# Altium footprint library Miscellaneous Devices LC.PcbLib: 559 footprints (part 1 of 35)
Each footprint in its own frame and in the unit in brackets; x right, y up, seen from the top. Pads: shape width x height; smd on the part's side, far side on the other; paste and mask are expansions set on the pad; w line width, h text height; cw(c..) or ccw(c..) is an arc to the next point about the centre after c.
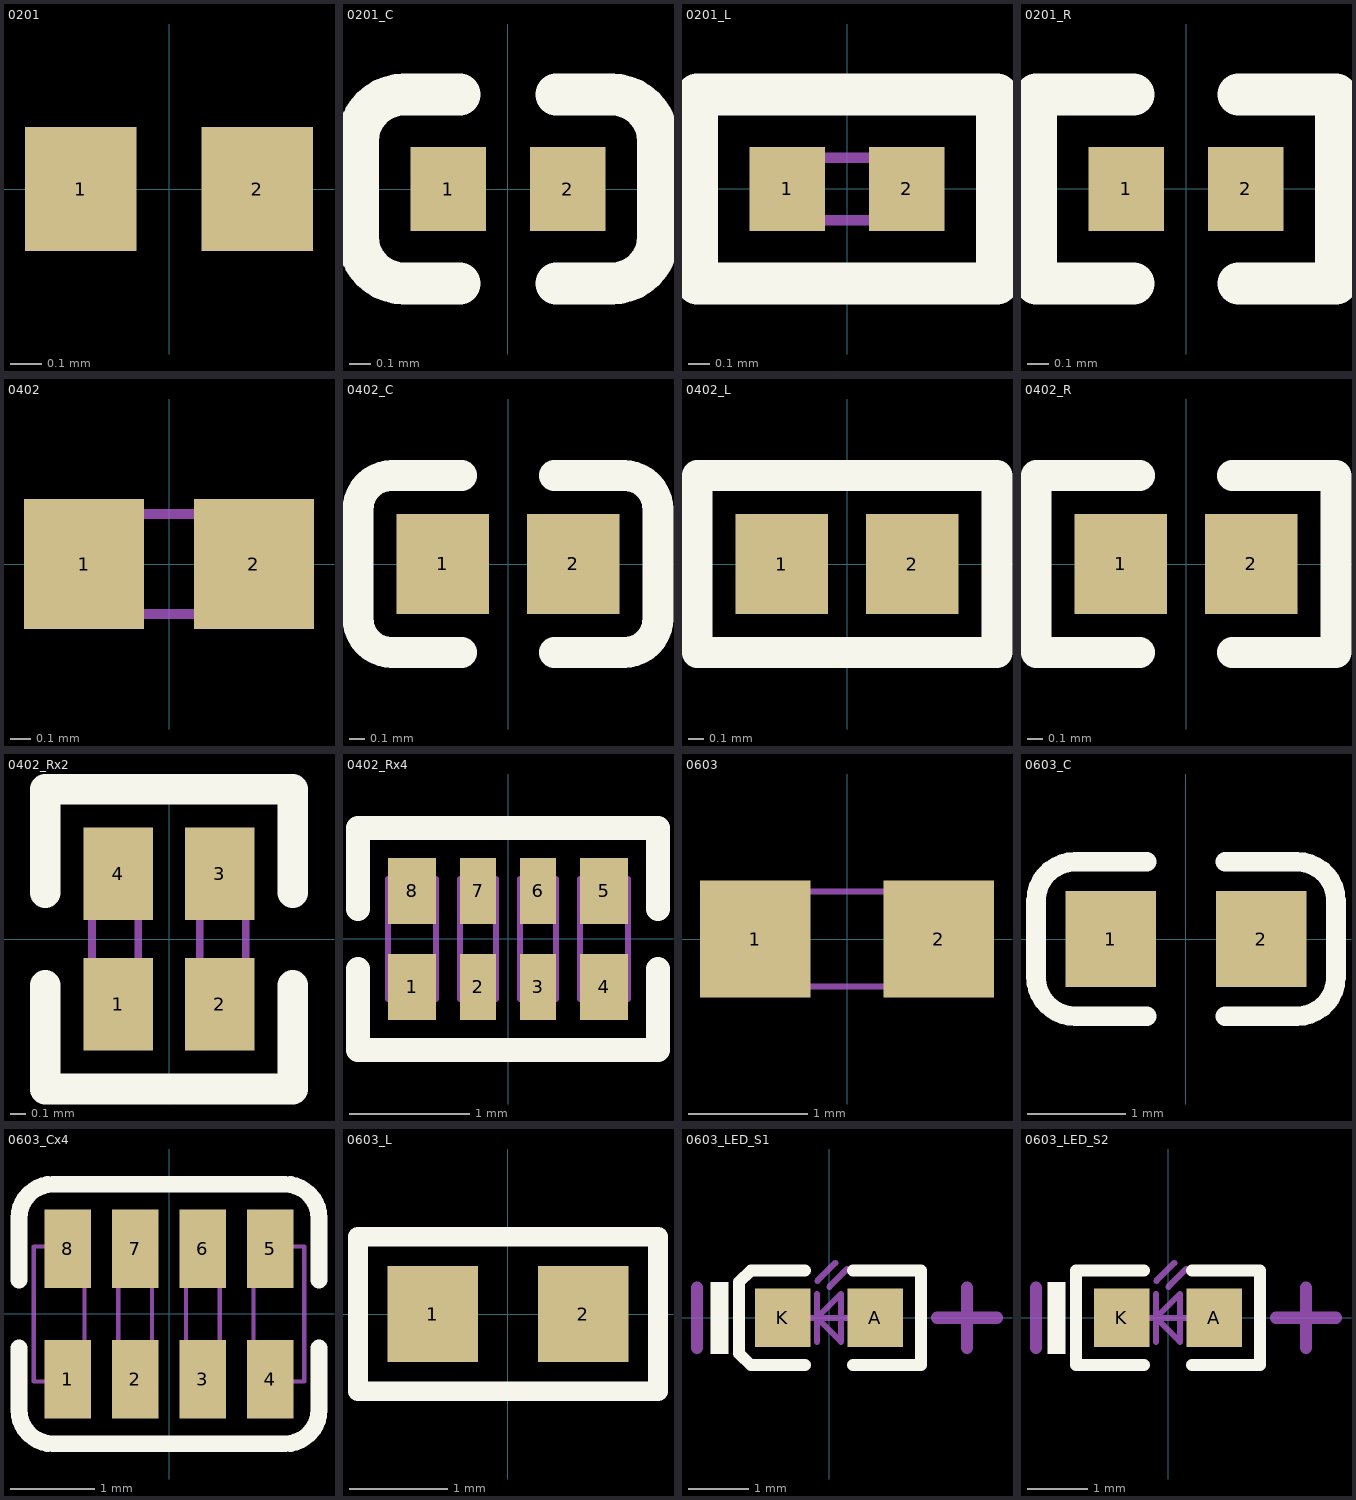
[diagram p0: the footprints below, top view; thin cyan lines are the x and y axes]

## 0201 [mm]
pads (2):
  rect 0.36x0.4 smd mask+0.051: 1(-0.285,0) 2(0.285,0)

## 0201_C [mm]
pads (2):
  rect 0.36x0.4 smd mask+0.051: 1(-0.285,0) 2(0.285,0)
Top Overlay:
  lines w0.2: -0.23,-0.45 -0.495,-0.45 cw(c-0.495,-0.23) -0.715,-0.23 -0.715,0.23 cw(c-0.495,0.23) -0.495,0.45 -0.23,0.45 ; 0.23,-0.45 0.495,-0.45 ccw(c0.495,-0.23) 0.715,-0.23 0.715,0.23 ccw(c0.495,0.23) 0.495,0.45 0.23,0.45
3D body "User Library-0201(0603M) Cap.step": height 0.31, standoff 0, extent -0.305,-0.152 0.305,0.153

## 0201_L [mm]
pads (2):
  rect 0.36x0.4 smd mask+0.051: 1(-0.285,0) 2(0.285,0)
Top Overlay:
  lines w0.2: -0.715,-0.45 -0.715,0.45 0.715,0.45 0.715,-0.45 -0.715,-0.45
Mechanical 13:
  lines w0.05: -0.3,-0.15 0.3,-0.15 0.3,0.15 -0.3,0.15 -0.3,-0.15
3D body "L0201.STEP": height 0.28, standoff 0, extent -0.3,-0.15 0.3,0.15

## 0201_R [mm]
pads (2):
  rect 0.36x0.4 smd mask+0.051: 1(-0.285,0) 2(0.285,0)
Top Overlay:
  lines w0.2: -0.25,-0.45 -0.715,-0.45 -0.715,0.45 -0.25,0.45 ; 0.25,-0.45 0.715,-0.45 0.715,0.45 0.25,0.45
3D body "User Library-RES_0603-0201.STEP": height 0.34, standoff 0, extent -0.34,-0.165 0.34,0.165

## 0402 [mm]
pads (2):
  rect 0.6x0.65 smd mask+0.051: 1(-0.425,0) 2(0.425,0)
Mechanical 13:
  lines w0.05: -0.5,-0.25 -0.5,0.25 0.5,0.25 0.5,-0.25 -0.5,-0.25

## 0402_C [mm]
pads (2):
  rect 0.6x0.65 smd mask+0.051: 1(-0.425,0) 2(0.425,0)
Top Overlay:
  lines w0.2: -0.755,-0.575 cw(c-0.755,-0.355) -0.975,-0.355 -0.975,0.355 cw(c-0.755,0.355) -0.755,0.575 ; -0.75,-0.575 -0.3,-0.575 ; -0.75,0.575 -0.3,0.575 ; 0.3,-0.575 0.75,-0.575 ; 0.3,0.575 0.75,0.575 ; 0.755,-0.575 ccw(c0.755,-0.355) 0.975,-0.355 0.975,0.355 ccw(c0.755,0.355) 0.755,0.575
3D body "0402 SMD Capacitor.step": height 0.2, standoff 0, extent -0.483,-0.3 0.518,0.3

## 0402_L [mm]
pads (2):
  rect 0.6x0.65 smd mask+0.051: 1(-0.425,0) 2(0.425,0)
Top Overlay:
  lines w0.2: -0.975,-0.575 -0.975,0.575 0.975,0.575 0.975,-0.575 -0.975,-0.575
3D body "L0402.STEP": height 0.36, standoff -0.01, extent -0.512,-0.262 0.538,0.263

## 0402_R [mm]
pads (2):
  rect 0.6x0.65 smd mask+0.051: 1(-0.425,0) 2(0.425,0)
Top Overlay:
  lines w0.2: -0.3,-0.575 -0.975,-0.575 -0.975,0.575 -0.3,0.575 ; 0.3,-0.575 0.975,-0.575 0.975,0.575 0.3,0.575
3D body "User Library-RES_1005-0402.STEP": height 0.41, standoff 0, extent -0.575,-0.275 0.575,0.275

## 0402_Rx2 [mm]
pads (4):
  rect 0.45x0.6 smd mask+0.051: 1(-0.33,-0.425) 2(0.33,-0.425) 3(0.33,0.425) 4(-0.33,0.425)
Top Overlay:
  lines w0.2: -0.805,-0.3 -0.805,-0.975 0.805,-0.975 0.805,-0.3 ; -0.805,0.3 -0.805,0.975 0.805,0.975 0.805,0.3
Mechanical 13:
  lines w0.05: -0.5,-0.5 -0.5,0.5 -0.2,0.5 -0.2,-0.5 -0.5,-0.5 ; 0.2,-0.5 0.2,0.5 0.5,0.5 0.5,-0.5 0.2,-0.5
3D body "User Library-YC122.STEP": height 0.35, standoff 0, extent -0.5,-0.5 0.5,0.5

## 0402_Rx4 [mm]
pads (8):
  rect 0.4x0.55 smd mask+0.051: 1(-0.8,-0.4) 4(0.8,-0.4) 5(0.8,0.4) 8(-0.8,0.4)
  rect 0.3x0.55 smd mask+0.051: 2(-0.25,-0.4) 3(0.25,-0.4) 6(0.25,0.4) 7(-0.25,0.4)
Top Overlay:
  lines w0.2: -1.25,-0.25 -1.25,-0.925 1.25,-0.925 1.25,-0.25 ; -1.25,0.25 -1.25,0.925 1.25,0.925 1.25,0.25
Mechanical 13:
  lines w0.05: -1,-0.5 -0.6,-0.5 ; -1,-0.5 -1,0.5 -0.6,0.5 -0.6,-0.5 ; -1,-0.5 -0.6,-0.5 ; -0.4,-0.5 -0.1,-0.5 -0.1,0.5 -0.4,0.5 -0.4,-0.5 ; 0.1,-0.5 0.4,-0.5 0.4,0.5 0.1,0.5 0.1,-0.5 ; 0.6,-0.5 1,-0.5 1,0.5 0.6,0.5 0.6,-0.5
3D body "User Library-YC124-1.step": height 0.45, standoff 0, extent -1,-0.5 1,0.5

## 0603 [mm]
pads (2):
  rect 0.93x0.98 smd: 1(-0.77,0) 2(0.77,0)
Mechanical 13:
  lines w0.05: -0.8,-0.4 0.8,-0.4 0.8,0.4 -0.8,0.4 -0.8,-0.4

## 0603_C [mm]
pads (2):
  rect 0.93x0.98 smd: 1(-0.77,0) 2(0.77,0)
Top Overlay:
  lines w0.2: -0.4,-0.79 -1.135,-0.79 cw(c-1.135,-0.39) -1.535,-0.39 -1.535,0.39 cw(c-1.135,0.39) -1.135,0.79 -0.4,0.79 ; 0.4,-0.79 1.135,-0.79 ccw(c1.135,-0.39) 1.535,-0.39 1.535,0.39 ccw(c1.135,0.39) 1.135,0.79 0.4,0.79
3D body "User Library-0603 SMD Capacitor.STEP": height 0.3, standoff 0, extent -0.8,-0.4 0.8,0.4

## 0603_Cx4 [mm]
pads (8):
  rect 0.55x0.93 smd mask+0.051: 1(-1.2,-0.77) 2(-0.4,-0.77) 3(0.4,-0.77) 4(1.2,-0.77) 5(1.2,0.77) 6(0.4,0.77) 7(-0.4,0.77) 8(-1.2,0.77)
Top Overlay:
  lines w0.2: -1.775,-0.4 -1.775,-1.135 ccw(c-1.375,-1.135) -1.375,-1.535 1.375,-1.535 ccw(c1.375,-1.135) 1.775,-1.135 1.775,-0.4 ; -1.775,0.4 -1.775,1.135 cw(c-1.375,1.135) -1.375,1.535 1.375,1.535 cw(c1.375,1.135) 1.775,1.135 1.775,0.4
Mechanical 13:
  lines w0.05: -1.6,-0.8 -1,-0.8 -1,0.8 -1.6,0.8 -1.6,-0.8 ; -0.6,-0.8 -0.2,-0.8 -0.2,0.8 -0.6,0.8 -0.6,-0.8 ; 0.2,-0.8 0.6,-0.8 0.6,0.8 0.2,0.8 0.2,-0.8 ; 1,-0.8 1.6,-0.8 1.6,0.8 1,0.8 1,-0.8

## 0603_L [mm]
pads (2):
  rect 0.93x0.98 smd: 1(-0.77,0) 2(0.77,0)
Top Overlay:
  lines w0.2: -1.535,-0.79 1.535,-0.79 1.535,0.79 -1.535,0.79 -1.535,-0.79
3D body "L0603.STEP": height 0.46, standoff -0.01, extent -0.825,-0.412 0.825,0.413

## 0603_LED_S1 [mm]
pads (2):
  rect 0.93x0.98 smd: A(0.77,0) K(-0.77,0)
Top Overlay:
  rectangle: -1.975,-0.6 -1.675,0.6
  lines w0.2: -0.4,-0.79 -1.3,-0.79 -1.5,-0.597 -1.5,0.597 -1.3,0.79 -0.4,0.79 ; 0.4,-0.79 1.535,-0.79 1.535,0.79 0.4,0.79
Mechanical 13:
  lines w0.1: -0.4,0 0.4,0 ; -0.2,-0.4 -0.2,0.4 ; -0.195,0.617 0.105,0.917 ; 0.005,0.517 0.305,0.817 ; -0.2,0 0.2,-0.4 0.2,0.4 -0.2,0
Mechanical 15:
  lines w0.203: -2.2,-0.5 -2.2,0.5 ; 1.8,0 2.8,0 ; 2.3,-0.5 2.3,0.5
3D body "User Library-LED_0603_R.STEP": height 0.6, standoff 0, extent -0.8,-0.4 0.8,0.4

## 0603_LED_S2 [mm]
pads (2):
  rect 0.93x0.98 smd: A(0.77,0) K(-0.77,0)
Top Overlay:
  rectangle: -2.01,-0.6 -1.71,0.6
  lines w0.2: -0.4,-0.79 -1.535,-0.79 -1.535,0.79 -0.4,0.79 ; 0.4,-0.79 1.535,-0.79 1.535,0.79 0.4,0.79
Mechanical 13:
  lines w0.1: -0.4,0 0.4,0 ; -0.2,-0.4 -0.2,0.4 ; -0.195,0.617 0.105,0.917 ; 0.005,0.517 0.305,0.817 ; -0.2,0 0.2,-0.4 0.2,0.4 -0.2,0
Mechanical 15:
  lines w0.203: -2.2,-0.5 -2.2,0.5 ; 1.8,0 2.8,0 ; 2.3,-0.5 2.3,0.5
3D body "User Library-LED_0603_R.STEP": height 0.6, standoff 0, extent -0.8,-0.4 0.8,0.4